# EAGLE library part NACHT_USBCONNECTORS_A (library NachtElk_USBConnectors)
Nacht Elk. - USB Connectors Ekrem Turan Fırat Nacht Elk. - USB Connectors USB(2.0): Type-A Connector Model: 480371000 Mount Type: THT R/A Current Rating: 1.5A Operating Temperature: -20°C up to 85°C Datasheet <https://www.molex.com/pdm_docs/sd/480371000_sd.pdf> 03.04.2022
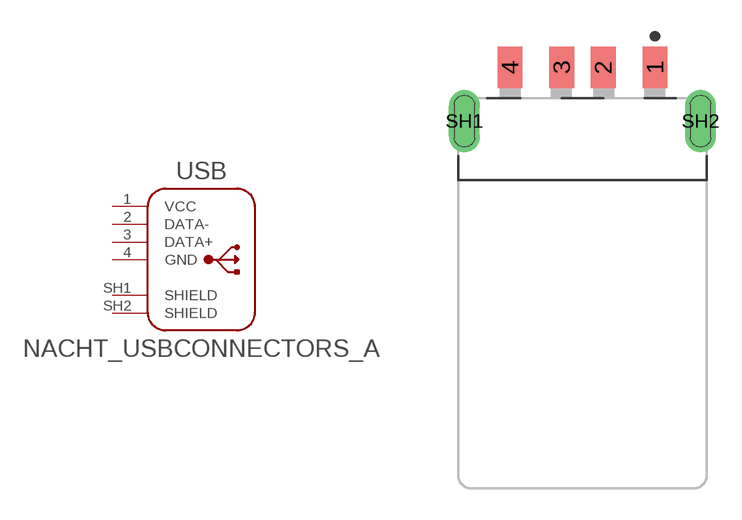
[diagram p1: symbol with the pads of USB-A; footprint USB-A]

Designator prefix USB

## NACHT_USBCONNECTORS_A (CURRENT: 1.5A; DIGI-KEY_NUMBER: WM17118-ND; MODEL: 480371000; MOUNT_TYPE: THT R/A; PART-NUMBER: 0480371000; TEMPERATURE: -20°C up to 85°C; USB_TYPE: USB-A; VALUE: USB-A)  [USB-A]
1  VCC  pwr
2  DATA-
3  DATA+
4  GND  pwr
SH1  SHIELD  sup
SH2  SHIELD  sup

## Footprint USB-A (pad centres in mm)
Nacht Elk. - USB Connectors Ekrem Turan Fırat Model: 480371000 Dimensions(LxWxH): 17.8x12x4.5 mm 03.04.2022
smd 1.2 x 2: 1 3.5,10.22; 2 1,10.22; 3 -1,10.22; 4 -3.5,10.22
drill 1 long: SH1 -5.7,7.62; SH2 5.7,7.62